# Altium footprint library corporatecam.PcbLib: 52 footprints (part 2 of 4)
Each footprint in its own frame and in the unit in brackets; x right, y up, seen from the top. Pads: shape width x height; smd on the part's side, far side on the other; paste and mask are expansions set on the pad; w line width, h text height; cw(c..) or ccw(c..) is an arc to the next point about the centre after c.
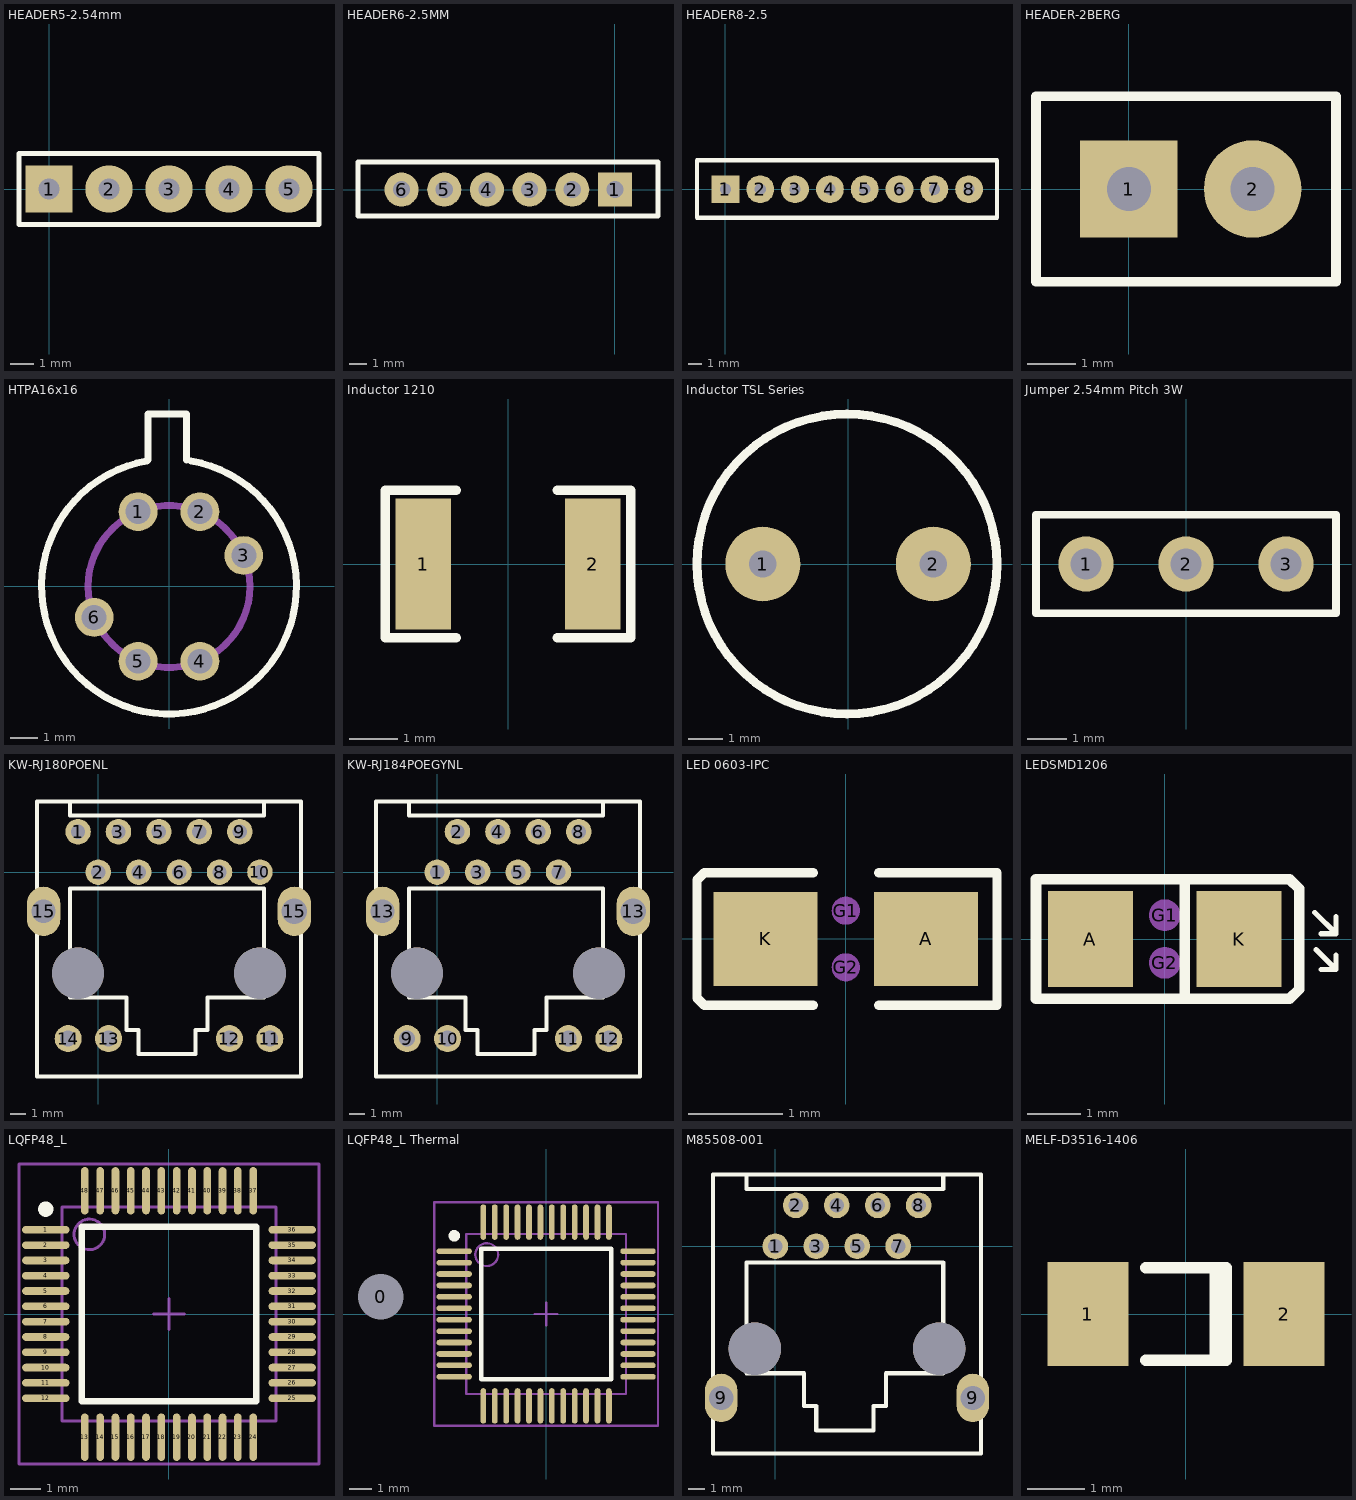
[diagram p1: the footprints below, top view; thin cyan lines are the x and y axes]

## HEADER5-2.54mm [mm]
height 8.22
pads (5):
  rect 2x2 hole 0.9: 1(0,0)
  round 2 hole 0.9: 2(2.54,0) 3(5.08,0) 4(7.62,0) 5(10.16,0)
Top Overlay:
  lines w0.2: 11.4,-1.5 -1.27,-1.5 -1.27,1.5 11.4,1.5 ; 11.43,-1.5 11.43,1.5

## HEADER6-2.5MM [mm]
pads (6):
  rect 2x2 hole 1: 1(0,0)
  round 2 hole 1: 2(-2.5,0) 3(-5,0) 4(-7.5,0) 5(-10,0) 6(-12.5,0)
Top Overlay:
  lines w0.305: -15.055,-1.55 2.525,-1.55 2.525,1.625 -15.055,1.625 ; -15.05,-1.55 -15.05,1.625

## HEADER8-2.5 [mm]
pads (8):
  rect 2x2 hole 0.8: 1(0,0)
  round 2 hole 0.8: 2(2.5,0) 3(5,0) 4(7.5,0) 5(10,0) 6(12.5,0) 7(15,0) 8(17.5,0)
Top Overlay:
  lines w0.305: -2.04,-2.048 -2.04,2.08 19.5,2.08 19.5,-2.048 -2.04,-2.048

## HEADER-2BERG [mm]
pads (2):
  rect 2x2 hole 0.9: 1(0,0)
  round 2 hole 0.9: 2(2.54,0)
Top Overlay:
  lines w0.2: -1.905,-1.905 4.25,-1.905 4.25,1.905 -1.905,1.905 -1.905,-1.905

## HTPA16x16 [mm]
pads (6):
  round 1.4 hole 0.9: 1(-1.117,2.699) 2(1.117,2.699) 3(2.698,1.118) 4(1.117,-2.697) 5(-1.117,-2.697) 6(-2.698,-1.116)
Top Overlay:
  lines w0.254: -0.799,4.53 ccw(c0,0) 0.799,4.53 ; -0.762,4.572 -0.762,6.223 0.635,6.223 0.635,4.572
Mechanical 15:
  circle w0.254: c0,0 r2.92

## Inductor 1210 [mm] "Chip Inductor 3.5x2.8mm"
height 2.1
pads (2):
  rect 1.15x2.7 smd: 1(-1.75,0) 2(1.75,0)
Top Overlay:
  lines w0.2: -1.069,-1.524 -2.54,-1.524 -2.54,1.524 -1.069,1.524 ; 1.016,-1.524 2.487,-1.524 ; 1.016,1.524 2.487,1.524 ; 2.54,-1.524 2.54,1.524

## Inductor TSL Series [mm]
pads (2):
  round 2.2 hole 0.8: 1(-2.5,0) 2(2.5,0)
Top Overlay:
  circle w0.254: c-0.03,0 r4.4

## Jumper 2.54mm Pitch 3W [mm]
height 3.18
pads (3):
  round 1.4 hole 0.8: 1(-2.54,0) 2(0,0) 3(2.54,0)
Top Overlay:
  lines w0.2: -3.81,-1.25 3.81,-1.25 3.81,1.25 -3.81,1.25 -3.81,-1.25
Mechanical 15:
  lines w0.1: -3.81,-1.25 3.81,-1.25 3.81,1.25 -3.81,1.25 -3.81,-1.25

## KW-RJ180POENL [mm] "Molex RJ45 HS-Vertical Skt"
pads (18):
  round 1.6 hole 0.9: 1(-1.27,2.54) 2(0,0) 3(1.27,2.54) 4(2.54,0) 5(3.81,2.54) 6(5.08,0) 7(6.35,2.54) 8(7.62,0) 9(8.89,2.54) 10(10.16,0)
  round 1.7 hole 1: 11(10.78,-10.46) 12(8.24,-10.46) 13(0.65,-10.46) 14(-1.89,-10.46)
  oval 2.1x3.1 hole 1.5: 15(-3.43,-2.46)
  oval 2.1x3.1 hole 1.6: 15(12.32,-2.46)
  round 3.25 hole 3.25 unplated: ""(-1.27,-6.35) ""(10.16,-6.35)
Top Overlay:
  lines w0.2: -3.855,-12.85 4.445,-12.85 -1.27,-12.85 ; -3.855,4.45 4.445,4.45
  lines w0.254: -1.778,4.45 -1.778,3.556 10.414,3.556 10.414,4.45 ; -3.855,-12.85 -3.855,4.45 12.745,4.45 12.745,-12.85 -3.855,-12.85 ; -1.778,-7.874 1.778,-7.874 1.778,-9.906 2.54,-9.906 2.54,-11.43 6.096,-11.43 6.096,-9.906 6.858,-9.906 6.858,-7.874 10.414,-7.874 10.414,-1.016 -1.778,-1.016 -1.778,-2.032 -1.778,-7.874

## KW-RJ184POEGYNL [mm] "Molex RJ45 HS-Vertical Skt"
pads (16):
  round 1.6 hole 0.9: 1(0,0) 2(1.27,2.54) 3(2.54,0) 4(3.81,2.54) 5(5.08,0) 6(6.35,2.54) 7(7.62,0) 8(8.89,2.54)
  round 1.7 hole 1: 9(-1.89,-10.46) 10(0.65,-10.46) 11(8.24,-10.46) 12(10.78,-10.46)
  oval 2.1x3.1 hole 1.5: 13(-3.43,-2.46)
  oval 2.1x3.1 hole 1.6: 13(12.32,-2.46)
  round 3.25 hole 3.25 unplated: ""(-1.27,-6.35) ""(10.16,-6.35)
Top Overlay:
  lines w0.2: -3.855,-12.85 4.445,-12.85 -1.27,-12.85 ; -3.855,4.45 4.445,4.45
  lines w0.254: -1.778,4.45 -1.778,3.556 10.414,3.556 10.414,4.45 ; -3.855,-12.85 -3.855,4.45 12.745,4.45 12.745,-12.85 -3.855,-12.85 ; -1.778,-7.874 1.778,-7.874 1.778,-9.906 2.54,-9.906 2.54,-11.43 6.096,-11.43 6.096,-9.906 6.858,-9.906 6.858,-7.874 10.414,-7.874 10.414,-1.016 -1.778,-1.016 -1.778,-2.032 -1.778,-7.874

## LED 0603-IPC [mm] "1608"
height 0.6
pads (4):
  rect 1.1x1 smd paste-0.052: A(0.85,0) K(-0.85,0)
  round 0.3 on Mech7: G1(0,0.3) G2(0,-0.3)
Top Overlay:
  lines w0.1: -0.344,-0.7 -1.5,-0.7 -1.575,-0.625 -1.575,0.225 -1.575,0.625 -1.5,0.7 -0.344,0.7 ; 0.35,-0.7 1.6,-0.7 1.6,0.7 0.35,0.7

## LEDSMD1206 [mm]
height 0.71
pads (4):
  rect 1.6x1.8 smd paste-0.09: A(-1.4,0) K(1.4,0)
  round 0.6 on Mech7: G1(0,0.45) G2(0,-0.45)
Top Overlay:
  lines w0.1: 2.825,0.5 3.225,0.1 ; 2.85,-0.2 3.225,-0.575 ; 2.95,-0.575 3.225,-0.575 ; 2.95,0.1 3.225,0.1 ; 3.225,-0.3 3.225,-0.575 ; 3.225,0.425 3.225,0.1
  lines w0.2: 0.375,-1.05 0.375,1.055 ; -2.425,-1.125 2.35,-1.125 2.53,-0.945 2.53,0.945 2.35,1.125 -2.425,1.125 -2.425,-1.125

## LQFP48_L [mm] "Thin QFP, 48-Leads, Body 7x7mm, Pitch 0.5mm, IPC High Density"
height 1.6
pads (48):
  oval 1.55x0.25 smd: 1(-4.025,2.75) 2(-4.025,2.25) 3(-4.025,1.75) 4(-4.025,1.25) 5(-4.025,0.75) 6(-4.025,0.25) 7(-4.025,-0.25) 8(-4.025,-0.75) 9(-4.025,-1.25) 10(-4.025,-1.75) 11(-4.025,-2.25) 12(-4.025,-2.75) 25(4.025,-2.75) 26(4.025,-2.25) 27(4.025,-1.75) 28(4.025,-1.25) 29(4.025,-0.75) 30(4.025,-0.25) 31(4.025,0.25) 32(4.025,0.75) 33(4.025,1.25) 34(4.025,1.75) 35(4.025,2.25) 36(4.025,2.75)
  oval 0.25x1.55 smd: 13(-2.75,-4.025) 14(-2.25,-4.025) 15(-1.75,-4.025) 16(-1.25,-4.025) 17(-0.75,-4.025) 18(-0.25,-4.025) 19(0.25,-4.025) 20(0.75,-4.025) 21(1.25,-4.025) 22(1.75,-4.025) 23(2.25,-4.025) 24(2.75,-4.025) 37(2.75,4.025) 38(2.25,4.025) 39(1.75,4.025) 40(1.25,4.025) 41(0.75,4.025) 42(0.25,4.025) 43(-0.25,4.025) 44(-0.75,4.025) 45(-1.25,4.025) 46(-1.75,4.025) 47(-2.25,4.025) 48(-2.75,4.025)
Top Overlay:
  circle w0.25: c-4.025,3.425 r0.125
  lines w0.2: -2.85,-2.85 2.85,-2.85 2.85,2.85 -2.85,2.85 -2.85,-2.85
Mechanical 13:
  circle w0.1: c-2.6,2.6 r0.5
  lines w0.1: -3.5,-3.5 3.5,-3.5 3.5,3.5 -3.5,3.5 -3.5,-3.5
Mechanical 15:
  lines w0.1: -0.5,0 0.5,0 ; 0,-0.5 0,0.5 ; -4.9,-4.9 4.9,-4.9 4.9,4.9 -4.9,4.9 -4.9,-4.9
3D body: height 1.6, standoff 0, extent -3.5,-3.5 3.5,3.5

## LQFP48_L Thermal [mm] "Thin QFP, 48-Leads, Body 7x7mm, Pitch 0.5mm, IPC High Density"
height 1.6
pads (49):
  round 1.524 hole 2: 0(-7.239,0.762)
  oval 1.55x0.25 smd: 1(-4.025,2.75) 2(-4.025,2.25) 3(-4.025,1.75) 4(-4.025,1.25) 5(-4.025,0.75) 6(-4.025,0.25) 7(-4.025,-0.25) 8(-4.025,-0.75) 9(-4.025,-1.25) 10(-4.025,-1.75) 11(-4.025,-2.25) 12(-4.025,-2.75) 25(4.025,-2.75) 26(4.025,-2.25) 27(4.025,-1.75) 28(4.025,-1.25) 29(4.025,-0.75) 30(4.025,-0.25) 31(4.025,0.25) 32(4.025,0.75) 33(4.025,1.25) 34(4.025,1.75) 35(4.025,2.25) 36(4.025,2.75)
  oval 0.25x1.55 smd: 13(-2.75,-4.025) 14(-2.25,-4.025) 15(-1.75,-4.025) 16(-1.25,-4.025) 17(-0.75,-4.025) 18(-0.25,-4.025) 19(0.25,-4.025) 20(0.75,-4.025) 21(1.25,-4.025) 22(1.75,-4.025) 23(2.25,-4.025) 24(2.75,-4.025) 37(2.75,4.025) 38(2.25,4.025) 39(1.75,4.025) 40(1.25,4.025) 41(0.75,4.025) 42(0.25,4.025) 43(-0.25,4.025) 44(-0.75,4.025) 45(-1.25,4.025) 46(-1.75,4.025) 47(-2.25,4.025) 48(-2.75,4.025)
Top Overlay:
  circle w0.25: c-4.025,3.425 r0.125
  lines w0.2: -2.85,-2.85 2.85,-2.85 2.85,2.85 -2.85,2.85 -2.85,-2.85
Mechanical 13:
  circle w0.1: c-2.6,2.6 r0.5
  lines w0.1: -3.5,-3.5 3.5,-3.5 3.5,3.5 -3.5,3.5 -3.5,-3.5
Mechanical 15:
  lines w0.1: -0.5,0 0.5,0 ; 0,-0.5 0,0.5 ; -4.9,-4.9 4.9,-4.9 4.9,4.9 -4.9,4.9 -4.9,-4.9
3D body: height 1.6, standoff 0, extent -3.5,-3.5 3.5,3.5

## M85508-001 [mm] "Molex RJ45 HS-Vertical Skt"
pads (12):
  round 1.6 hole 0.9: 1(0,0) 2(1.27,2.54) 3(2.54,0) 4(3.81,2.54) 5(5.08,0) 6(6.35,2.54) 7(7.62,0) 8(8.89,2.54)
  oval 2x3 hole 1.5: 9(-3.355,-9.4) 9(12.245,-9.4)
  round 3.25 hole 3.25 unplated: ""(-1.27,-6.35) ""(10.16,-6.35)
Top Overlay:
  lines w0.2: -3.855,-12.85 4.445,-12.85 -1.27,-12.85 ; -3.855,4.45 4.445,4.45
  lines w0.254: -1.778,4.45 -1.778,3.556 10.414,3.556 10.414,4.45 ; -3.855,-12.85 12.745,-12.85 12.745,4.45 -3.855,4.45 -3.855,-12.85 ; -1.778,-7.874 -1.778,-2.032 -1.778,-1.016 10.414,-1.016 10.414,-7.874 6.858,-7.874 6.858,-9.906 6.096,-9.906 6.096,-11.43 2.54,-11.43 2.54,-9.906 1.778,-9.906 1.778,-7.874 -1.778,-7.874

## MELF-D3516-1406 [mm] "Metal Electrode Face (MELF) Diode; Body 3.5 x 1.7 mm (LxDia)"
height 1.7
pads (2):
  rect 1.4x1.8 smd: 1(-1.7,0) 2(1.7,0)
Top Overlay:
  lines w0.2: -0.7,-0.8 0.7,-0.8 0.7,0.8 -0.7,0.8 ; 0.51,-0.8 0.51,0.8